# EAGLE library part RJ45_RJHSE_508X (library stepOSP)
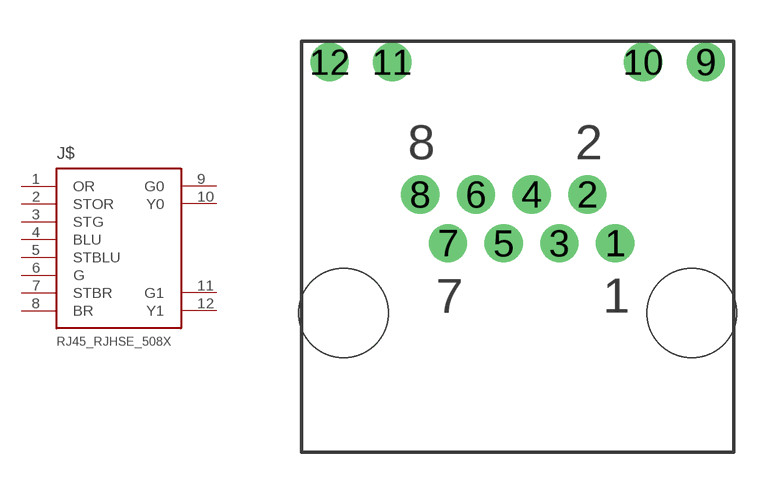
[diagram p39: symbol with the pads of RJHSE-5085; footprint RJHSE-5085]

Designator prefix J$

## RJ45_RJHSE_508X  [RJHSE-5085]
1  OR
2  STOR
3  STG
4  BLU
5  STBLU
6  G
7  STBR
8  BR
9  G0
10  Y0
11  G1
12  Y1

## Footprint RJHSE-5085 (pad centres in mm)
drill 0.889: 1 9.906,2.54; 2 8.89,4.318; 3 7.874,2.54; 4 6.858,4.318; 5 5.842,2.54; 6 4.826,4.318; 7 3.81,2.54; 8 2.794,4.318; 9 13.208,9.144; 10 10.922,9.144; 11 1.778,9.144; 12 -0.508,9.144
hole 3.251 at 0,0
hole 3.251 at 12.7,0